# Altium footprint library con-jst.PCBLIB: 24 footprints (part 2 of 2)
Each footprint in its own frame and in the unit in brackets; x right, y up, seen from the top. Pads: shape width x height; smd on the part's side, far side on the other; paste and mask are expansions set on the pad; w line width, h text height; cw(c..) or ccw(c..) is an arc to the next point about the centre after c.
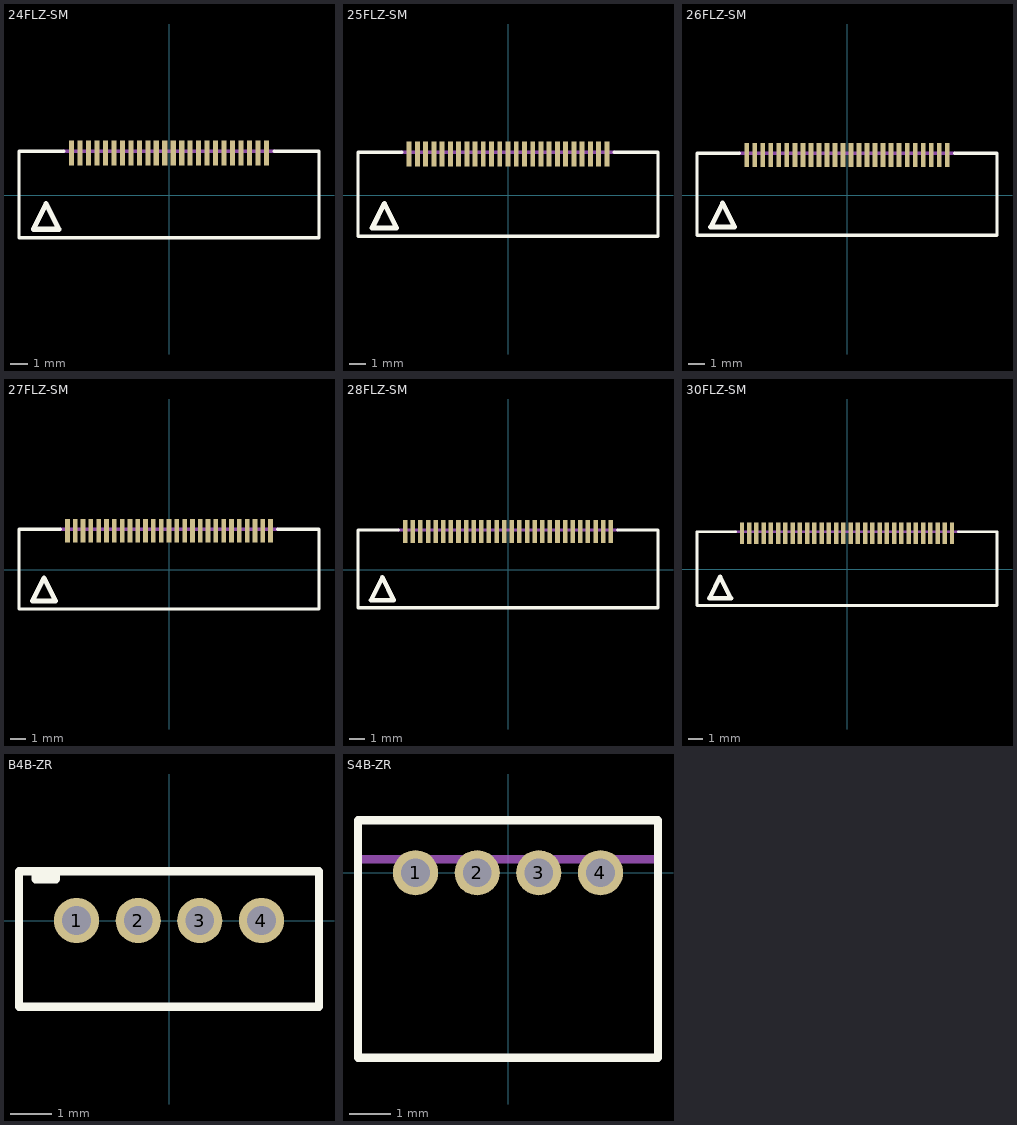
[diagram p1: the footprints below, top view; thin cyan lines are the x and y axes]

## 24FLZ-SM [mm]
pads (24):
  rect 0.3x1.5 smd: 1(-5.75,2.5) 2(-5.25,2.5) 3(-4.75,2.5) 4(-4.25,2.5) 5(-3.75,2.5) 6(-3.25,2.5) 7(-2.75,2.5) 8(-2.25,2.5) 9(-1.75,2.5) 10(-1.25,2.5) 11(-0.75,2.5) 12(-0.25,2.5) 13(0.25,2.5) 14(0.75,2.5) 15(1.25,2.5) 16(1.75,2.5) 17(2.25,2.5) 18(2.75,2.5) 19(3.25,2.5) 20(3.75,2.5) 21(4.25,2.5) 22(4.75,2.5) 23(5.25,2.5) 24(5.75,2.5)
Top Overlay:
  lines w0.203: -6.2,2.6 -8.85,2.6 -8.85,-2.5 8.85,-2.5 8.85,2.6 6.2,2.6
  lines w0.305: -8,-2 -7.25,-0.5 -6.5,-2 -8,-2
Mechanical 16:
  lines w0.203: -6.2,2.6 6.2,2.6

## 25FLZ-SM [mm]
pads (25):
  rect 0.3x1.5 smd: 1(-6,2.5) 2(-5.5,2.5) 3(-5,2.5) 4(-4.5,2.5) 5(-4,2.5) 6(-3.5,2.5) 7(-3,2.5) 8(-2.5,2.5) 9(-2,2.5) 10(-1.5,2.5) 11(-1,2.5) 12(-0.5,2.5) 13(0,2.5) 14(0.5,2.5) 15(1,2.5) 16(1.5,2.5) 17(2,2.5) 18(2.5,2.5) 19(3,2.5) 20(3.5,2.5) 21(4,2.5) 22(4.5,2.5) 23(5,2.5) 24(5.5,2.5) 25(6,2.5)
Top Overlay:
  lines w0.203: -6.45,2.6 -9.1,2.6 -9.1,-2.5 9.1,-2.5 9.1,2.6 6.45,2.6
  lines w0.305: -8.25,-2 -7.5,-0.5 -6.75,-2 -8.25,-2
Mechanical 16:
  lines w0.203: -6.45,2.6 6.45,2.6

## 26FLZ-SM [mm]
pads (26):
  rect 0.3x1.5 smd: 1(-6.25,2.5) 2(-5.75,2.5) 3(-5.25,2.5) 4(-4.75,2.5) 5(-4.25,2.5) 6(-3.75,2.5) 7(-3.25,2.5) 8(-2.75,2.5) 9(-2.25,2.5) 10(-1.75,2.5) 11(-1.25,2.5) 12(-0.75,2.5) 13(-0.25,2.5) 14(0.25,2.5) 15(0.75,2.5) 16(1.25,2.5) 17(1.75,2.5) 18(2.25,2.5) 19(2.75,2.5) 20(3.25,2.5) 21(3.75,2.5) 22(4.25,2.5) 23(4.75,2.5) 24(5.25,2.5) 25(5.75,2.5) 26(6.25,2.5)
Top Overlay:
  lines w0.203: -6.7,2.6 -9.35,2.6 -9.35,-2.5 9.35,-2.5 9.35,2.6 6.7,2.6
  lines w0.305: -8.5,-2 -7.75,-0.5 -7,-2 -8.5,-2
Mechanical 16:
  lines w0.203: -6.7,2.6 6.7,2.6

## 27FLZ-SM [mm]
pads (27):
  rect 0.3x1.5 smd: 1(-6.5,2.5) 2(-6,2.5) 3(-5.5,2.5) 4(-5,2.5) 5(-4.5,2.5) 6(-4,2.5) 7(-3.5,2.5) 8(-3,2.5) 9(-2.5,2.5) 10(-2,2.5) 11(-1.5,2.5) 12(-1,2.5) 13(-0.5,2.5) 14(0,2.5) 15(0.5,2.5) 16(1,2.5) 17(1.5,2.5) 18(2,2.5) 19(2.5,2.5) 20(3,2.5) 21(3.5,2.5) 22(4,2.5) 23(4.5,2.5) 24(5,2.5) 25(5.5,2.5) 26(6,2.5) 27(6.5,2.5)
Top Overlay:
  lines w0.203: -6.95,2.6 -9.6,2.6 -9.6,-2.5 9.6,-2.5 9.6,2.6 6.95,2.6
  lines w0.305: -8.75,-2 -8,-0.5 -7.25,-2 -8.75,-2
Mechanical 16:
  lines w0.203: -6.95,2.6 6.95,2.6

## 28FLZ-SM [mm]
pads (28):
  rect 0.3x1.5 smd: 1(-6.75,2.5) 2(-6.25,2.5) 3(-5.75,2.5) 4(-5.25,2.5) 5(-4.75,2.5) 6(-4.25,2.5) 7(-3.75,2.5) 8(-3.25,2.5) 9(-2.75,2.5) 10(-2.25,2.5) 11(-1.75,2.5) 12(-1.25,2.5) 13(-0.75,2.5) 14(-0.25,2.5) 15(0.25,2.5) 16(0.75,2.5) 17(1.25,2.5) 18(1.75,2.5) 19(2.25,2.5) 20(2.75,2.5) 21(3.25,2.5) 22(3.75,2.5) 23(4.25,2.5) 24(4.75,2.5) 25(5.25,2.5) 26(5.75,2.5) 27(6.25,2.5) 28(6.75,2.5)
Top Overlay:
  lines w0.203: -7.2,2.6 -9.85,2.6 -9.85,-2.5 9.85,-2.5 9.85,2.6 7.2,2.6
  lines w0.305: -9,-2 -8.25,-0.5 -7.5,-2 -9,-2
Mechanical 16:
  lines w0.203: -7.2,2.6 7.2,2.6

## 30FLZ-SM [mm]
pads (30):
  rect 0.3x1.5 smd: 1(-7.25,2.5) 2(-6.75,2.5) 3(-6.25,2.5) 4(-5.75,2.5) 5(-5.25,2.5) 6(-4.75,2.5) 7(-4.25,2.5) 8(-3.75,2.5) 9(-3.25,2.5) 10(-2.75,2.5) 11(-2.25,2.5) 12(-1.75,2.5) 13(-1.25,2.5) 14(-0.75,2.5) 15(-0.25,2.5) 16(0.25,2.5) 17(0.75,2.5) 18(1.25,2.5) 19(1.75,2.5) 20(2.25,2.5) 21(2.75,2.5) 22(3.25,2.5) 23(3.75,2.5) 24(4.25,2.5) 25(4.75,2.5) 26(5.25,2.5) 27(5.75,2.5) 28(6.25,2.5) 29(6.75,2.5) 30(7.25,2.5)
Top Overlay:
  lines w0.203: -7.7,2.6 -10.35,2.6 -10.35,-2.5 10.35,-2.5 10.35,2.6 7.7,2.6
  lines w0.305: -9.5,-2 -8.75,-0.5 -8,-2 -9.5,-2
Mechanical 16:
  lines w0.203: -7.7,2.6 7.7,2.6

## B4B-ZR [mm]
pads (4):
  round 1.1 hole 0.7: 1(-2.25,0) 2(-0.75,0) 3(0.75,0) 4(2.25,0)
Top Overlay:
  lines w0.203: -3.25,1.15 -3.25,1 -2.75,1 -2.75,1.15 ; -3.65,-2.1 3.65,-2.1 3.65,1.2 -3.65,1.2 -3.65,-2.1

## S4B-ZR [mm]
pads (4):
  round 1.1 hole 0.7: 1(-2.25,0) 2(-0.75,0) 3(0.75,0) 4(2.25,0)
Top Overlay:
  lines w0.203: -3.65,-4.5 3.65,-4.5 3.65,1.275 -3.65,1.275 -3.65,-4.5
Mechanical 16:
  lines w0.203: -3.55,0.325 3.55,0.325